# Altium footprint library SODFL5336X130N.PcbLib: 1 footprints
Each footprint in its own frame and in the unit in brackets; x right, y up, seen from the top. Pads: shape width x height; smd on the part's side, far side on the other; paste and mask are expansions set on the pad; w line width, h text height; cw(c..) or ccw(c..) is an arc to the next point about the centre after c.
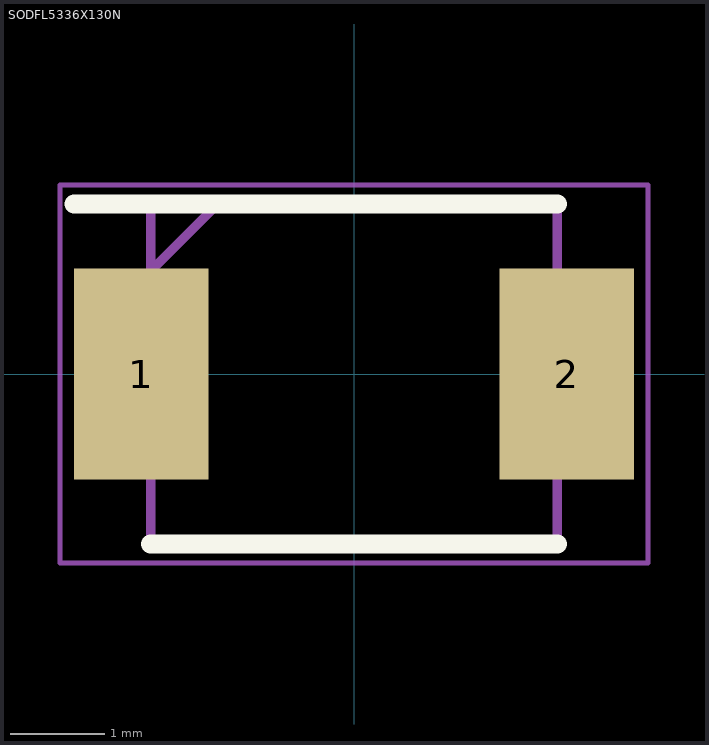
[diagram p0: the footprint, top view; thin cyan lines are the x and y axes]

## SODFL5336X130N [mm]
pads (2):
  rect 1.42x2.23 smd: 1(-2.25,0) 2(2.25,0)
Top Overlay:
  lines w0.2: -2.96,1.8 2.15,1.8 ; -2.15,-1.8 2.15,-1.8
Mechanical 15:
  lines w0.1: -2.15,1.09 -1.44,1.8 ; -2.15,-1.8 2.15,-1.8 2.15,1.8 -2.15,1.8 -2.15,-1.8
Mechanical 20:
  lines w0.05: -3.11,-2 3.11,-2 3.11,2 -3.11,2 -3.11,-2